# Altium integrated library Linear Technology Power Management Battery Management.IntLib: 626 symbols (part 55 of 56)
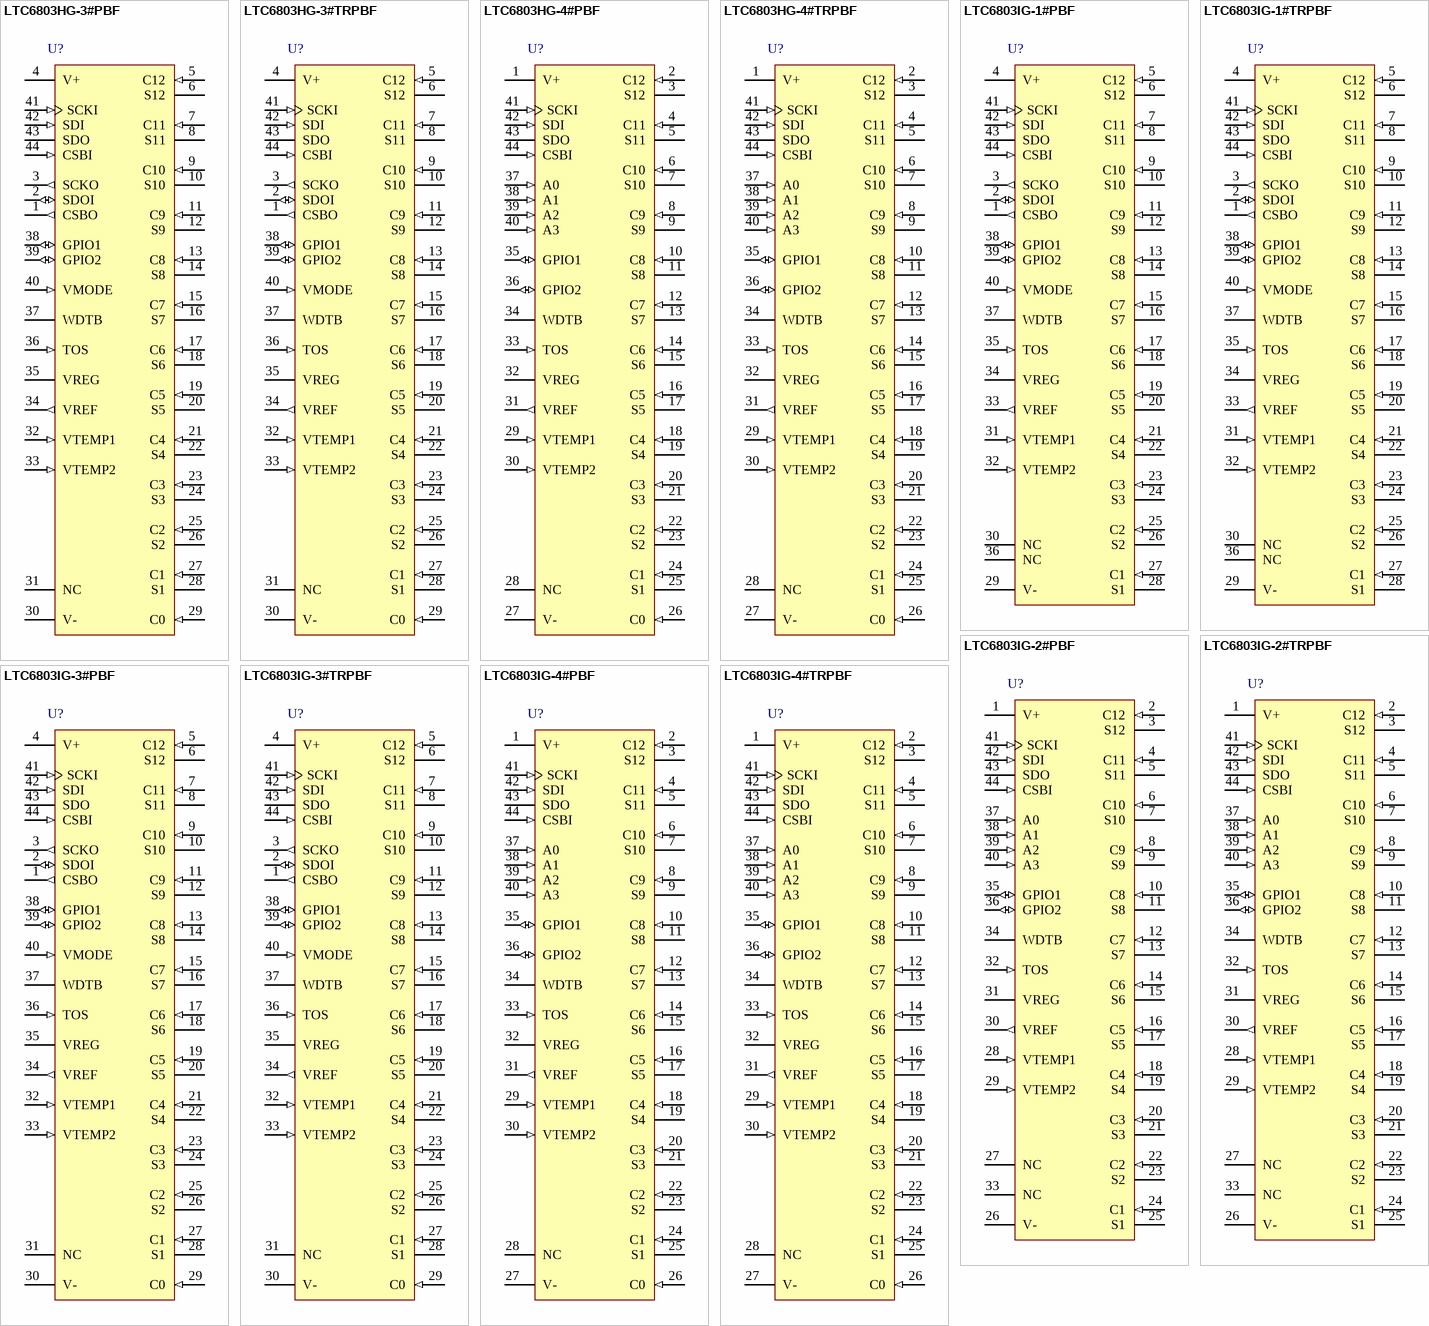
[diagram p76: symbols LTC6803HG-3#PBF to LTC6803IG-4#TRPBF]

## LTC6803IG-3#TRPBF
designator U?
Multicell Battery Stack Monitor, 60 V Vin MAX, 44-pin SOP (G-44), -40 to 85 degC, Pb-Free, Tape and Reel; Manufacturer: Linear Technology; PartNumber: LTC6803IG-3#TRPBF; Battery Chemistry: Li-Ion, Supercapacitors, Multi-Chemistry; Number of Cells: > 1000 V of stacked Li-Ion cells; Vin Max(V): 60; DatasheetVersion: Rev. A; PackageVersion: Rev. Ø, 06/2010; PackageReference: G-44; PackageDescription: 44-Pin Plastic SSOP, Body 12.8 x 5.3 mm, Pitch 0.5 mm; Supplier 1: Digi-Key; Supplier Part Number 1: LTC6803IG-3#TRPBF-ND; Supplier 2: Newark; Supplier Part Number 2: 54T8029; Packing: Tape and Reel; RoHS: TRUE; Type of Charger: Battery Stack Monitor; Mounting Technology: Surface Mount; ComponentLink1Description: Manufacturer URL; ComponentLink1URL: http://www.linear.com/; ComponentLink2Description: Datasheet; ComponentLink2URL: http://cds.linear.com/docs/en/datasheet/680313fa.pdf; ComponentLink3Description: Package Specification; ComponentLink3URL: http://cds.linear.com/docs/en/packaging/SSOP_44_05-08-1754.pdf
footprint LT-G-44_N (SOP, 44-Leads, Body 13.1x5.6mm, Pitch 0.5mm, IPC Medium Density)
footprint LT-G-44_L (SOP, 44-Leads, Body 13.1x5.6mm, Pitch 0.5mm, IPC High Density)
footprint LT-G-44_M (SOP, 44-Leads, Body 13.1x5.6mm, Pitch 0.5mm, IPC Low Density)
pins: 1 CSBO (out) "Chip Select Output (Active Low). CSBO is a buffered version of the chip select input, CSBI. CSBO drives the next IC in the daisy chain. See Serial Port in the Applications Information section.", 2 SDOI (io) "Serial Data I/O Pin. SDOI transfers data to and from the next IC in the daisy chain. See Serial Port in the Applications Information section.", 3 SCKO (out) "Serial Clock Output. SCKO is a buffered version of SCKI. SCKO drives the next IC in the daisy chain. See Serial Port in the Applications Information section.", 4 V+ (power) "Positive Power Supply. Pin 4 can be tied to the most positive potential in the battery stack or an isolated power supply. V+ must be greater than the most positive potential in the battery stack under normal operation. With (See Datasheet)", 5 C12 (in) "C1 through C12 are the inputs for monitoring battery cell voltages. The negative terminal of the bottom cell is tied to pin V- for LTC6803-1, pin C0 for LTC6803-3 . The next lowest potential is tied to C1 and so forth. See (See Datasheet)", 6 S12 (hiz) "S1 though S12 pins are used to balance battery cells. If one cell in a series becomes overcharged, an S output can be used to discharge the cell. Each S output has an internal N-channel MOSFET for discharging. See the Block (See Datasheet)", 7 C11 (in) "C1 through C12 are the inputs for monitoring battery cell voltages. The negative terminal of the bottom cell is tied to pin V- for LTC6803-1, pin C0 for LTC6803-3 . The next lowest potential is tied to C1 and so forth. See (See Datasheet)", 8 S11 (hiz) "S1 though S12 pins are used to balance battery cells. If one cell in a series becomes overcharged, an S output can be used to discharge the cell. Each S output has an internal N-channel MOSFET for discharging. See the Block (See Datasheet)", 9 C10 (in) "C1 through C12 are the inputs for monitoring battery cell voltages. The negative terminal of the bottom cell is tied to pin V- for LTC6803-1, pin C0 for LTC6803-3 . The next lowest potential is tied to C1 and so forth. See (See Datasheet)", 10 S10 (hiz) "S1 though S12 pins are used to balance battery cells. If one cell in a series becomes overcharged, an S output can be used to discharge the cell. Each S output has an internal N-channel MOSFET for discharging. See the Block (See Datasheet)", 11 C9 (in) "C1 through C12 are the inputs for monitoring battery cell voltages. The negative terminal of the bottom cell is tied to pin V- for LTC6803-1, pin C0 for LTC6803-3 . The next lowest potential is tied to C1 and so forth. See (See Datasheet)", 12 S9 (hiz) "S1 though S12 pins are used to balance battery cells. If one cell in a series becomes overcharged, an S output can be used to discharge the cell. Each S output has an internal N-channel MOSFET for discharging. See the Block (See Datasheet)", 13 C8 (in) "C1 through C12 are the inputs for monitoring battery cell voltages. The negative terminal of the bottom cell is tied to pin V- for LTC6803-1, pin C0 for LTC6803-3 . The next lowest potential is tied to C1 and so forth. See (See Datasheet)", 14 S8 (hiz) "S1 though S12 pins are used to balance battery cells. If one cell in a series becomes overcharged, an S output can be used to discharge the cell. Each S output has an internal N-channel MOSFET for discharging. See the Block (See Datasheet)", 15 C7 (in) "C1 through C12 are the inputs for monitoring battery cell voltages. The negative terminal of the bottom cell is tied to pin V- for LTC6803-1, pin C0 for LTC6803-3 . The next lowest potential is tied to C1 and so forth. See (See Datasheet)", 16 S7 (hiz) "S1 though S12 pins are used to balance battery cells. If one cell in a series becomes overcharged, an S output can be used to discharge the cell. Each S output has an internal N-channel MOSFET for discharging. See the Block (See Datasheet)", 17 C6 (in) "C1 through C12 are the inputs for monitoring battery cell voltages. The negative terminal of the bottom cell is tied to pin V- for LTC6803-1, pin C0 for LTC6803-3 . The next lowest potential is tied to C1 and so forth. See (See Datasheet)", 18 S6 (hiz) "S1 though S12 pins are used to balance battery cells. If one cell in a series becomes overcharged, an S output can be used to discharge the cell. Each S output has an internal N-channel MOSFET for discharging. See the Block (See Datasheet)", 19 C5 (in) "C1 through C12 are the inputs for monitoring battery cell voltages. The negative terminal of the bottom cell is tied to pin V- for LTC6803-1, pin C0 for LTC6803-3 . The next lowest potential is tied to C1 and so forth. See (See Datasheet)", 20 S5 (hiz) "S1 though S12 pins are used to balance battery cells. If one cell in a series becomes overcharged, an S output can be used to discharge the cell. Each S output has an internal N-channel MOSFET for discharging. See the Block (See Datasheet)", 21 C4 (in) "C1 through C12 are the inputs for monitoring battery cell voltages. The negative terminal of the bottom cell is tied to pin V- for LTC6803-1, pin C0 for LTC6803-3 . The next lowest potential is tied to C1 and so forth. See (See Datasheet)", 22 S4 (hiz) "S1 though S12 pins are used to balance battery cells. If one cell in a series becomes overcharged, an S output can be used to discharge the cell. Each S output has an internal N-channel MOSFET for discharging. See the Block (See Datasheet)", 23 C3 (in) "C1 through C12 are the inputs for monitoring battery cell voltages. The negative terminal of the bottom cell is tied to pin V- for LTC6803-1, pin C0 for LTC6803-3 . The next lowest potential is tied to C1 and so forth. See (See Datasheet)", 24 S3 (hiz) "S1 though S12 pins are used to balance battery cells. If one cell in a series becomes overcharged, an S output can be used to discharge the cell. Each S output has an internal N-channel MOSFET for discharging. See the Block (See Datasheet)", 25 C2 (in) "C1 through C12 are the inputs for monitoring battery cell voltages. The negative terminal of the bottom cell is tied to pin V- for LTC6803-1, pin C0 for LTC6803-3 . The next lowest potential is tied to C1 and so forth. See (See Datasheet)", 26 S2 (hiz) "S1 though S12 pins are used to balance battery cells. If one cell in a series becomes overcharged, an S output can be used to discharge the cell. Each S output has an internal N-channel MOSFET for discharging. See the Block (See Datasheet)", 27 C1 (in) "C1 through C12 are the inputs for monitoring battery cell voltages. The negative terminal of the bottom cell is tied to pin V- for LTC6803-1, pin C0 for LTC6803-3 . The next lowest potential is tied to C1 and so forth. See (See Datasheet)", 28 S1 (hiz) "S1 though S12 pins are used to balance battery cells. If one cell in a series becomes overcharged, an S output can be used to discharge the cell. Each S output has an internal N-channel MOSFET for discharging. See the Block (See Datasheet)", 29 C0 (in) "Negative Terminal of the Bottom Battery Cell. C0 and V- form Kelvin connections to eliminate effect of voltage drop at the V- trace.", 30 V- (power) "Connect V- to the most negative potential in the series of cells.", 31 NC "This pin is not used and is internally connected to V- through 10ohm. It can be left unconnected or connected to V- on the PCB.", 32 VTEMP1 (in) "Temperature Sensor Inputs. The ADC measures the voltage on VTEMPn with respect to V- and stores the result in the TMP registers. The ADC measurements are relative to the VREF pin voltage. Therefore a simple thermistor and (See Datasheet)", 33 VTEMP2 (in) "Temperature Sensor Inputs. The ADC measures the voltage on VTEMPn with respect to V- and stores the result in the TMP registers. The ADC measurements are relative to the VREF pin voltage. Therefore a simple thermistor and (See Datasheet)", 34 VREF (out) "3.065V Voltage Reference Output. This pin should be bypassed with a 1uF capacitor. The VREF pin can drive a 100k resistive load connected to V-. Larger loads should be buffered with an LT6003 op amp, or similar device.", 35 VREG (power) "Linear Voltage Regulator Output. This pin should be bypassed with a 1uF capacitor. The VREG pin is capable of supplying up to 4mA to an external load. The VREG pin does not sink current.", 36 TOS (in) "Top of Stack Input. Tie TOS to VREG when the LTC6803-1 or LTC6803-3 is the top device in a daisy chain. Tie TOS to V- otherwise. When TOS is tied to VREG, the LTC6803-1 or LTC6803-3 ignores the SDOI input and SCKO, CSBO are (See Datasheet)", 37 WDTB (oc) "Watchdog Timer Output (Active Low). If there is no valid command received for 1 to 2.5 seconds, the WDTB output is asserted. The WDTB pin is an open-drain NMOS output. When asserted it pulls the output down to V- and resets (See Datasheet)", 38 GPIO1 (io) "General Purpose Input/Output. By writing a “0” to a GPIO configuration register bit, the open-drain output is activated and the pin is pulled to V-. By writing logic “1” to the configuration register b(See Datasheet)", 39 GPIO2 (io) "General Purpose Input/Output. By writing a “0” to a GPIO configuration register bit, the open-drain output is activated and the pin is pulled to V-. By writing logic “1” to the configuration register b(See Datasheet)", 40 VMODE (in) "Voltage Mode Input. When VMODE is tied to VREG, the SCKI, SDI, SDO and CSBI pins are configured as voltage inputs and outputs. This means these pins accept standard TTL logic levels. Connect VMODE to VREG when the LTC6803-1 (See Datasheet)", 41 SCKI (in) "Serial Clock Input. The SCKI pin interfaces to any logic gate (TTL levels) if VMODE is tied to VREG. SCKI must be driven by the SCKO pin of another LTC6803-1 or LTC6803-3 if VMODE is tied to V-. See Serial Port in the (See Datasheet)", 42 SDI (in) "Serial Data Input. The SDI pin interfaces to any logic gate (TTL levels) if VMODE is tied to VREG. SDI must be driven by the SDOI pin of another LTC6803-1 or LTC6803-3 if VMODE is tied to V-. See Serial Port in the (See Datasheet)", 43 SDO (oc) "Serial Data Output. The SDO pin is an NMOS open-drain output if VMODE is tied to VREG. A pull-up resistor is needed on SDO. SDO is not used if VMODE is tied to V-. See Serial Port in the Applications Information section.", 44 CSBI (in) "Chip Select (Active Low) Input. The CSBI pin interfaces to any logic gate (TTL levels) if VMODE is tied to VREG. CSBI must be driven by the CSBO pin of another LTC6803-1 or LTC6803-3 if VMODE is tied to V-. See Serial Port (See Datasheet)"

## LTC6803IG-4#PBF
designator U?
Multicell Battery Stack Monitor, 60 V Vin MAX, 44-pin SOP (G-44), -40 to 85 degC, Pb-Free; Manufacturer: Linear Technology; PartNumber: LTC6803IG-4#PBF; Battery Chemistry: Li-Ion, Supercapacitors, Multi-Chemistry; Number of Cells: > 1000 V of stacked Li-Ion cells; Vin Max(V): 60; DatasheetVersion: Rev. A; PackageVersion: Rev. Ø, 06/2010; PackageReference: G-44; PackageDescription: 44-Pin Plastic SSOP, Body 12.8 x 5.3 mm, Pitch 0.5 mm; Supplier 1: Digi-Key; Supplier Part Number 1: LTC6803IG-4#PBF-ND; Supplier 2: Newark; Supplier Part Number 2: 59T9375; RoHS: TRUE; Type of Charger: Battery Stack Monitor; Mounting Technology: Surface Mount; ComponentLink1Description: Manufacturer URL; ComponentLink1URL: http://www.linear.com/; ComponentLink2Description: Datasheet; ComponentLink2URL: http://cds.linear.com/docs/en/datasheet/680324fa.pdf; ComponentLink3Description: Package Specification; ComponentLink3URL: http://cds.linear.com/docs/en/packaging/SSOP_44_05-08-1754.pdf
footprint LT-G-44_N (SOP, 44-Leads, Body 13.1x5.6mm, Pitch 0.5mm, IPC Medium Density)
footprint LT-G-44_L (SOP, 44-Leads, Body 13.1x5.6mm, Pitch 0.5mm, IPC High Density)
footprint LT-G-44_M (SOP, 44-Leads, Body 13.1x5.6mm, Pitch 0.5mm, IPC Low Density)
pins: 1 V+ (power) "Positive Power Supply. Pin 1 can be tied to the most positive potential in the battery stack or an isolated power supply. V+ must be greater than the most positive potential in the battery stack under normal operation. With (See Datasheet)", 2 C12 (in) "C1 through C12 are the inputs for monitoring battery cell voltages. The negative terminal of the bottom cell should be tied to the V- pin for the LTC6803-2, and the C0 pin for the LTC6803-4. The next lowest potential is tied (See Datasheet)", 3 S12 (hiz) "S1 though S12 pins are used to balance battery cells. If one cell in a series becomes overcharged, an S output can be used to discharge the cell. Each S output has an internal N-channel MOSFET for discharging. See the Block (See Datasheet)", 4 C11 (in) "C1 through C12 are the inputs for monitoring battery cell voltages. The negative terminal of the bottom cell should be tied to the V- pin for the LTC6803-2, and the C0 pin for the LTC6803-4. The next lowest potential is tied (See Datasheet)", 5 S11 (hiz) "S1 though S12 pins are used to balance battery cells. If one cell in a series becomes overcharged, an S output can be used to discharge the cell. Each S output has an internal N-channel MOSFET for discharging. See the Block (See Datasheet)", 6 C10 (in) "C1 through C12 are the inputs for monitoring battery cell voltages. The negative terminal of the bottom cell should be tied to the V- pin for the LTC6803-2, and the C0 pin for the LTC6803-4. The next lowest potential is tied (See Datasheet)", 7 S10 (hiz) "S1 though S12 pins are used to balance battery cells. If one cell in a series becomes overcharged, an S output can be used to discharge the cell. Each S output has an internal N-channel MOSFET for discharging. See the Block (See Datasheet)", 8 C9 (in) "C1 through C12 are the inputs for monitoring battery cell voltages. The negative terminal of the bottom cell should be tied to the V- pin for the LTC6803-2, and the C0 pin for the LTC6803-4. The next lowest potential is tied (See Datasheet)", 9 S9 (hiz) "S1 though S12 pins are used to balance battery cells. If one cell in a series becomes overcharged, an S output can be used to discharge the cell. Each S output has an internal N-channel MOSFET for discharging. See the Block (See Datasheet)", 10 C8 (in) "C1 through C12 are the inputs for monitoring battery cell voltages. The negative terminal of the bottom cell should be tied to the V- pin for the LTC6803-2, and the C0 pin for the LTC6803-4. The next lowest potential is tied (See Datasheet)", 11 S8 (hiz) "S1 though S12 pins are used to balance battery cells. If one cell in a series becomes overcharged, an S output can be used to discharge the cell. Each S output has an internal N-channel MOSFET for discharging. See the Block (See Datasheet)", 12 C7 (in) "C1 through C12 are the inputs for monitoring battery cell voltages. The negative terminal of the bottom cell should be tied to the V- pin for the LTC6803-2, and the C0 pin for the LTC6803-4. The next lowest potential is tied (See Datasheet)", 13 S7 (hiz) "S1 though S12 pins are used to balance battery cells. If one cell in a series becomes overcharged, an S output can be used to discharge the cell. Each S output has an internal N-channel MOSFET for discharging. See the Block (See Datasheet)", 14 C6 (in) "C1 through C12 are the inputs for monitoring battery cell voltages. The negative terminal of the bottom cell should be tied to the V- pin for the LTC6803-2, and the C0 pin for the LTC6803-4. The next lowest potential is tied (See Datasheet)", 15 S6 (hiz) "S1 though S12 pins are used to balance battery cells. If one cell in a series becomes overcharged, an S output can be used to discharge the cell. Each S output has an internal N-channel MOSFET for discharging. See the Block (See Datasheet)", 16 C5 (in) "C1 through C12 are the inputs for monitoring battery cell voltages. The negative terminal of the bottom cell should be tied to the V- pin for the LTC6803-2, and the C0 pin for the LTC6803-4. The next lowest potential is tied (See Datasheet)", 17 S5 (hiz) "S1 though S12 pins are used to balance battery cells. If one cell in a series becomes overcharged, an S output can be used to discharge the cell. Each S output has an internal N-channel MOSFET for discharging. See the Block (See Datasheet)", 18 C4 (in) "C1 through C12 are the inputs for monitoring battery cell voltages. The negative terminal of the bottom cell should be tied to the V- pin for the LTC6803-2, and the C0 pin for the LTC6803-4. The next lowest potential is tied (See Datasheet)", 19 S4 (hiz) "S1 though S12 pins are used to balance battery cells. If one cell in a series becomes overcharged, an S output can be used to discharge the cell. Each S output has an internal N-channel MOSFET for discharging. See the Block (See Datasheet)", 20 C3 (in) "C1 through C12 are the inputs for monitoring battery cell voltages. The negative terminal of the bottom cell should be tied to the V- pin for the LTC6803-2, and the C0 pin for the LTC6803-4. The next lowest potential is tied (See Datasheet)", 21 S3 (hiz) "S1 though S12 pins are used to balance battery cells. If one cell in a series becomes overcharged, an S output can be used to discharge the cell. Each S output has an internal N-channel MOSFET for discharging. See the Block (See Datasheet)", 22 C2 (in) "C1 through C12 are the inputs for monitoring battery cell voltages. The negative terminal of the bottom cell should be tied to the V- pin for the LTC6803-2, and the C0 pin for the LTC6803-4. The next lowest potential is tied (See Datasheet)", 23 S2 (hiz) "S1 though S12 pins are used to balance battery cells. If one cell in a series becomes overcharged, an S output can be used to discharge the cell. Each S output has an internal N-channel MOSFET for discharging. See the Block (See Datasheet)", 24 C1 (in) "C1 through C12 are the inputs for monitoring battery cell voltages. The negative terminal of the bottom cell should be tied to the V- pin for the LTC6803-2, and the C0 pin for the LTC6803-4. The next lowest potential is tied (See Datasheet)", 25 S1 (hiz) "S1 though S12 pins are used to balance battery cells. If one cell in a series becomes overcharged, an S output can be used to discharge the cell. Each S output has an internal N-channel MOSFET for discharging. See the Block (See Datasheet)", 26 C0 (in) "Negative Terminal of the Bottom Battery Cell. C0 and V- form Kelvin connections to eliminate effect of voltage drop at the V- trace.", 27 V- (power) "Connect V- to the most negative potential in the series of cells.", 28 NC "No Connection.", 29 VTEMP1 (in) "Temperature Sensor Inputs. The ADC will measure the voltage on VTEMPn with respect to V- and store the result in the TMP register. The ADC measurements are relative to the VREF pin voltage. Therefore a simple thermistor and (See Datasheet)", 30 VTEMP2 (in) "Temperature Sensor Inputs. The ADC will measure the voltage on VTEMPn with respect to V- and store the result in the TMP register. The ADC measurements are relative to the VREF pin voltage. Therefore a simple thermistor and (See Datasheet)", 31 VREF (out) "3.065V Voltage Reference Output. This pin should be bypassed with a 1uF capacitor. The VREF pin can drive a 100k resistive load connected to V-. Larger loads should be buffered with an LT6003 op amp, or similar device.", 32 VREG (power) "Linear Voltage Regulator Output. This pin should be bypassed with a 1uF capacitor. The VREG pin is capable of supplying up to 4mA to an external load. The VREG pin does not sink current.", 33 TOS (in) "Top of Stack Input. The TOS pin can be tied to VREG or V- for the LTC6803. The state of the TOS pin alters the operation of the SDO pin in the toggle polling mode. See the Serial Port description.", 34 WDTB (oc) "Watchdog Timer Output (Active Low). If there is no valid command received in 1 to 2.5 seconds, the WDTB output is asserted. The WDTB pin is an open-drain NMOS output. When asserted it pulls the output down to V- and resets (See Datasheet)", 35 GPIO1 (io) "General Purpose Input/ Output. By writing a “0” to a GPIO configuration register bit, the open-drain output is activated and the pin is pulled to V-. By writing a logic “1” to the configuration register b(See Datasheet)", 36 GPIO2 (io) "General Purpose Input/ Output. By writing a “0” to a GPIO configuration register bit, the open-drain output is activated and the pin is pulled to V-. By writing a logic “1” to the configuration register b(See Datasheet)", 37 A0 (in) "Address Inputs. These pins are tied to VREG or V-. The state of the address pins (VREG = 1, V- = 0) determines the LTC6803 address. See Address Commands in the Serial Port subsection of the Applications Information section.", 38 A1 (in) "Address Inputs. These pins are tied to VREG or V-. The state of the address pins (VREG = 1, V- = 0) determines the LTC6803 address. See Address Commands in the Serial Port subsection of the Applications Information section.", 39 A2 (in) "Address Inputs. These pins are tied to VREG or V-. The state of the address pins (VREG = 1, V- = 0) determines the LTC6803 address. See Address Commands in the Serial Port subsection of the Applications Information section.", 40 A3 (in) "Address Inputs. These pins are tied to VREG or V-. The state of the address pins (VREG = 1, V- = 0) determines the LTC6803 address. See Address Commands in the Serial Port subsection of the Applications Information section.", 41 SCKI (in) "Serial Clock Input. The SCKI pin interfaces to any logic gate (TTL levels). See Serial Port in the Applications Information section.", 42 SDI (in) "Serial Data Input. The SDI pin interfaces to any logic gate (TTL levels). See Serial Port in the Applications Information section.", 43 SDO (oc) "Serial Data Output. The SDO pin is an NMOS open-drain output. A pull-up resistor is needed on SDO. See Serial Port in the Applications Information section.", 44 CSBI (in) "Chip Select (Active Low) Input. The CSBI pin interfaces to any logic gate (TTL levels). See Serial Port in the Applications Information section."

## LTC6803IG-4#TRPBF
designator U?
Multicell Battery Stack Monitor, 60 V Vin MAX, 44-pin SOP (G-44), -40 to 85 degC, Pb-Free, Tape and Reel; Manufacturer: Linear Technology; PartNumber: LTC6803IG-4#TRPBF; Battery Chemistry: Li-Ion, Supercapacitors, Multi-Chemistry; Number of Cells: > 1000 V of stacked Li-Ion cells; Vin Max(V): 60; DatasheetVersion: Rev. A; PackageVersion: Rev. Ø, 06/2010; PackageReference: G-44; PackageDescription: 44-Pin Plastic SSOP, Body 12.8 x 5.3 mm, Pitch 0.5 mm; Supplier 1: Digi-Key; Supplier Part Number 1: LTC6803IG-4#TRPBF-ND; Packing: Tape and Reel; RoHS: TRUE; Type of Charger: Battery Stack Monitor; Mounting Technology: Surface Mount; ComponentLink1Description: Manufacturer URL; ComponentLink1URL: http://www.linear.com/; ComponentLink2Description: Datasheet; ComponentLink2URL: http://cds.linear.com/docs/en/datasheet/680324fa.pdf; ComponentLink3Description: Package Specification; ComponentLink3URL: http://cds.linear.com/docs/en/packaging/SSOP_44_05-08-1754.pdf
footprint LT-G-44_N (SOP, 44-Leads, Body 13.1x5.6mm, Pitch 0.5mm, IPC Medium Density)
footprint LT-G-44_L (SOP, 44-Leads, Body 13.1x5.6mm, Pitch 0.5mm, IPC High Density)
footprint LT-G-44_M (SOP, 44-Leads, Body 13.1x5.6mm, Pitch 0.5mm, IPC Low Density)
pins: 1 V+ (power) "Positive Power Supply. Pin 1 can be tied to the most positive potential in the battery stack or an isolated power supply. V+ must be greater than the most positive potential in the battery stack under normal operation. With (See Datasheet)", 2 C12 (in) "C1 through C12 are the inputs for monitoring battery cell voltages. The negative terminal of the bottom cell should be tied to the V- pin for the LTC6803-2, and the C0 pin for the LTC6803-4. The next lowest potential is tied (See Datasheet)", 3 S12 (hiz) "S1 though S12 pins are used to balance battery cells. If one cell in a series becomes overcharged, an S output can be used to discharge the cell. Each S output has an internal N-channel MOSFET for discharging. See the Block (See Datasheet)", 4 C11 (in) "C1 through C12 are the inputs for monitoring battery cell voltages. The negative terminal of the bottom cell should be tied to the V- pin for the LTC6803-2, and the C0 pin for the LTC6803-4. The next lowest potential is tied (See Datasheet)", 5 S11 (hiz) "S1 though S12 pins are used to balance battery cells. If one cell in a series becomes overcharged, an S output can be used to discharge the cell. Each S output has an internal N-channel MOSFET for discharging. See the Block (See Datasheet)", 6 C10 (in) "C1 through C12 are the inputs for monitoring battery cell voltages. The negative terminal of the bottom cell should be tied to the V- pin for the LTC6803-2, and the C0 pin for the LTC6803-4. The next lowest potential is tied (See Datasheet)", 7 S10 (hiz) "S1 though S12 pins are used to balance battery cells. If one cell in a series becomes overcharged, an S output can be used to discharge the cell. Each S output has an internal N-channel MOSFET for discharging. See the Block (See Datasheet)", 8 C9 (in) "C1 through C12 are the inputs for monitoring battery cell voltages. The negative terminal of the bottom cell should be tied to the V- pin for the LTC6803-2, and the C0 pin for the LTC6803-4. The next lowest potential is tied (See Datasheet)", 9 S9 (hiz) "S1 though S12 pins are used to balance battery cells. If one cell in a series becomes overcharged, an S output can be used to discharge the cell. Each S output has an internal N-channel MOSFET for discharging. See the Block (See Datasheet)", 10 C8 (in) "C1 through C12 are the inputs for monitoring battery cell voltages. The negative terminal of the bottom cell should be tied to the V- pin for the LTC6803-2, and the C0 pin for the LTC6803-4. The next lowest potential is tied (See Datasheet)", 11 S8 (hiz) "S1 though S12 pins are used to balance battery cells. If one cell in a series becomes overcharged, an S output can be used to discharge the cell. Each S output has an internal N-channel MOSFET for discharging. See the Block (See Datasheet)", 12 C7 (in) "C1 through C12 are the inputs for monitoring battery cell voltages. The negative terminal of the bottom cell should be tied to the V- pin for the LTC6803-2, and the C0 pin for the LTC6803-4. The next lowest potential is tied (See Datasheet)", 13 S7 (hiz) "S1 though S12 pins are used to balance battery cells. If one cell in a series becomes overcharged, an S output can be used to discharge the cell. Each S output has an internal N-channel MOSFET for discharging. See the Block (See Datasheet)", 14 C6 (in) "C1 through C12 are the inputs for monitoring battery cell voltages. The negative terminal of the bottom cell should be tied to the V- pin for the LTC6803-2, and the C0 pin for the LTC6803-4. The next lowest potential is tied (See Datasheet)", 15 S6 (hiz) "S1 though S12 pins are used to balance battery cells. If one cell in a series becomes overcharged, an S output can be used to discharge the cell. Each S output has an internal N-channel MOSFET for discharging. See the Block (See Datasheet)", 16 C5 (in) "C1 through C12 are the inputs for monitoring battery cell voltages. The negative terminal of the bottom cell should be tied to the V- pin for the LTC6803-2, and the C0 pin for the LTC6803-4. The next lowest potential is tied (See Datasheet)", 17 S5 (hiz) "S1 though S12 pins are used to balance battery cells. If one cell in a series becomes overcharged, an S output can be used to discharge the cell. Each S output has an internal N-channel MOSFET for discharging. See the Block (See Datasheet)", 18 C4 (in) "C1 through C12 are the inputs for monitoring battery cell voltages. The negative terminal of the bottom cell should be tied to the V- pin for the LTC6803-2, and the C0 pin for the LTC6803-4. The next lowest potential is tied (See Datasheet)", 19 S4 (hiz) "S1 though S12 pins are used to balance battery cells. If one cell in a series becomes overcharged, an S output can be used to discharge the cell. Each S output has an internal N-channel MOSFET for discharging. See the Block (See Datasheet)", 20 C3 (in) "C1 through C12 are the inputs for monitoring battery cell voltages. The negative terminal of the bottom cell should be tied to the V- pin for the LTC6803-2, and the C0 pin for the LTC6803-4. The next lowest potential is tied (See Datasheet)", 21 S3 (hiz) "S1 though S12 pins are used to balance battery cells. If one cell in a series becomes overcharged, an S output can be used to discharge the cell. Each S output has an internal N-channel MOSFET for discharging. See the Block (See Datasheet)", 22 C2 (in) "C1 through C12 are the inputs for monitoring battery cell voltages. The negative terminal of the bottom cell should be tied to the V- pin for the LTC6803-2, and the C0 pin for the LTC6803-4. The next lowest potential is tied (See Datasheet)", 23 S2 (hiz) "S1 though S12 pins are used to balance battery cells. If one cell in a series becomes overcharged, an S output can be used to discharge the cell. Each S output has an internal N-channel MOSFET for discharging. See the Block (See Datasheet)", 24 C1 (in) "C1 through C12 are the inputs for monitoring battery cell voltages. The negative terminal of the bottom cell should be tied to the V- pin for the LTC6803-2, and the C0 pin for the LTC6803-4. The next lowest potential is tied (See Datasheet)", 25 S1 (hiz) "S1 though S12 pins are used to balance battery cells. If one cell in a series becomes overcharged, an S output can be used to discharge the cell. Each S output has an internal N-channel MOSFET for discharging. See the Block (See Datasheet)", 26 C0 (in) "Negative Terminal of the Bottom Battery Cell. C0 and V- form Kelvin connections to eliminate effect of voltage drop at the V- trace.", 27 V- (power) "Connect V- to the most negative potential in the series of cells.", 28 NC "No Connection.", 29 VTEMP1 (in) "Temperature Sensor Inputs. The ADC will measure the voltage on VTEMPn with respect to V- and store the result in the TMP register. The ADC measurements are relative to the VREF pin voltage. Therefore a simple thermistor and (See Datasheet)", 30 VTEMP2 (in) "Temperature Sensor Inputs. The ADC will measure the voltage on VTEMPn with respect to V- and store the result in the TMP register. The ADC measurements are relative to the VREF pin voltage. Therefore a simple thermistor and (See Datasheet)", 31 VREF (out) "3.065V Voltage Reference Output. This pin should be bypassed with a 1uF capacitor. The VREF pin can drive a 100k resistive load connected to V-. Larger loads should be buffered with an LT6003 op amp, or similar device.", 32 VREG (power) "Linear Voltage Regulator Output. This pin should be bypassed with a 1uF capacitor. The VREG pin is capable of supplying up to 4mA to an external load. The VREG pin does not sink current.", 33 TOS (in) "Top of Stack Input. The TOS pin can be tied to VREG or V- for the LTC6803. The state of the TOS pin alters the operation of the SDO pin in the toggle polling mode. See the Serial Port description.", 34 WDTB (oc) "Watchdog Timer Output (Active Low). If there is no valid command received in 1 to 2.5 seconds, the WDTB output is asserted. The WDTB pin is an open-drain NMOS output. When asserted it pulls the output down to V- and resets (See Datasheet)", 35 GPIO1 (io) "General Purpose Input/ Output. By writing a “0” to a GPIO configuration register bit, the open-drain output is activated and the pin is pulled to V-. By writing a logic “1” to the configuration register b(See Datasheet)", 36 GPIO2 (io) "General Purpose Input/ Output. By writing a “0” to a GPIO configuration register bit, the open-drain output is activated and the pin is pulled to V-. By writing a logic “1” to the configuration register b(See Datasheet)", 37 A0 (in) "Address Inputs. These pins are tied to VREG or V-. The state of the address pins (VREG = 1, V- = 0) determines the LTC6803 address. See Address Commands in the Serial Port subsection of the Applications Information section.", 38 A1 (in) "Address Inputs. These pins are tied to VREG or V-. The state of the address pins (VREG = 1, V- = 0) determines the LTC6803 address. See Address Commands in the Serial Port subsection of the Applications Information section.", 39 A2 (in) "Address Inputs. These pins are tied to VREG or V-. The state of the address pins (VREG = 1, V- = 0) determines the LTC6803 address. See Address Commands in the Serial Port subsection of the Applications Information section.", 40 A3 (in) "Address Inputs. These pins are tied to VREG or V-. The state of the address pins (VREG = 1, V- = 0) determines the LTC6803 address. See Address Commands in the Serial Port subsection of the Applications Information section.", 41 SCKI (in) "Serial Clock Input. The SCKI pin interfaces to any logic gate (TTL levels). See Serial Port in the Applications Information section.", 42 SDI (in) "Serial Data Input. The SDI pin interfaces to any logic gate (TTL levels). See Serial Port in the Applications Information section.", 43 SDO (oc) "Serial Data Output. The SDO pin is an NMOS open-drain output. A pull-up resistor is needed on SDO. See Serial Port in the Applications Information section.", 44 CSBI (in) "Chip Select (Active Low) Input. The CSBI pin interfaces to any logic gate (TTL levels). See Serial Port in the Applications Information section."

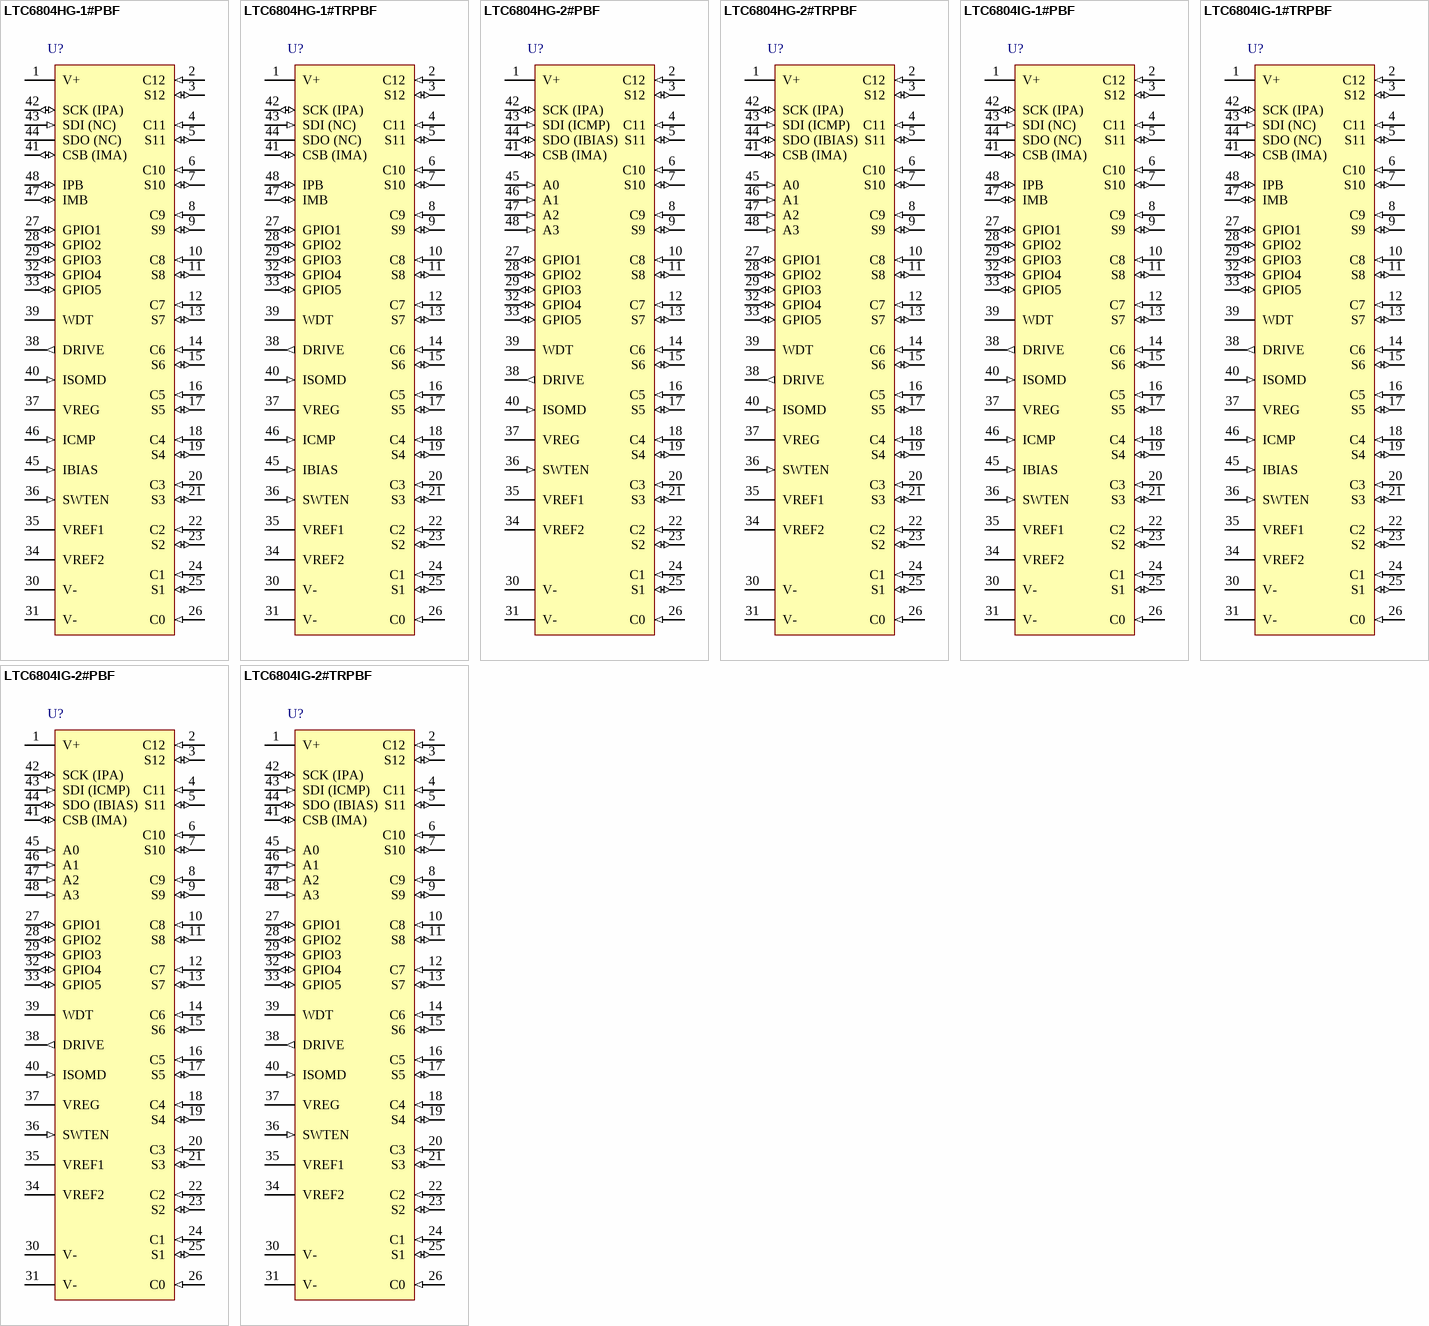
[diagram p22: symbols LTC6804HG-1#PBF to LTC6804IG-2#TRPBF]

## LTC6804HG-1#PBF
designator U?
Multicell Battery Monitor, 60 V Vin MAX, 48-pin SOP (G-48), -40 to 125 degC, Pb-Free; Manufacturer: Linear Technology; PartNumber: LTC6804HG-1#PBF; Battery Chemistry: Li-Ion, Li-Polymer, NiMH; Number of Cells: > 1000 V of stacked Li-Ion cells; Type of Charger: Battery Stack Monitor; Vin Max(V): 60; PackageVersion: Rev. Ø, 01/2011; PackageReference: G-48; PackageDescription: 48-Pin Plastic SSOP, Body 12.8 x 5.3 mm, Pitch 0.5 mm; Supplier 1: Digi-Key; Supplier Part Number 1: LTC6804HG-1#PBF-ND; Supplier 2: Newark; Supplier Part Number 2: 95W3382; RoHS: TRUE; Mounting Technology: Surface Mount; ComponentLink1Description: Manufacturer URL; ComponentLink1URL: http://www.linear.com/; ComponentLink2Description: Datasheet; ComponentLink2URL: http://cds.linear.com/docs/en/datasheet/680412f.pdf; ComponentLink3Description: Package Specification; ComponentLink3URL: http://cds.linear.com/docs/en/packaging/05081887_0_G48.pdf
footprint LT-G-48_N (SOP, 48-Leads, Body 13.1x5.6mm, Pitch 0.5mm, IPC Medium Density)
footprint LT-G-48_L (SOP, 48-Leads, Body 13.1x5.6mm, Pitch 0.5mm, IPC High Density)
footprint LT-G-48_M (SOP, 48-Leads, Body 13.1x5.6mm, Pitch 0.5mm, IPC Low Density)
pins: 1 V+ (power) "Positive Supply Pin.", 2 C12 (in) "Cell Inputs.", 3 S12 (io) "Balance Inputs/Outputs. 12 N-MOSFETs are connected between S(n) and C(n - 1) for discharging cells.", 4 C11 (in) "Cell Inputs.", 5 S11 (io) "Balance Inputs/Outputs. 12 N-MOSFETs are connected between S(n) and C(n - 1) for discharging cells.", 6 C10 (in) "Cell Inputs.", 7 S10 (io) "Balance Inputs/Outputs. 12 N-MOSFETs are connected between S(n) and C(n - 1) for discharging cells.", 8 C9 (in) "Cell Inputs.", 9 S9 (io) "Balance Inputs/Outputs. 12 N-MOSFETs are connected between S(n) and C(n - 1) for discharging cells.", 10 C8 (in) "Cell Inputs.", 11 S8 (io) "Balance Inputs/Outputs. 12 N-MOSFETs are connected between S(n) and C(n - 1) for discharging cells.", 12 C7 (in) "Cell Inputs.", 13 S7 (io) "Balance Inputs/Outputs. 12 N-MOSFETs are connected between S(n) and C(n - 1) for discharging cells.", 14 C6 (in) "Cell Inputs.", 15 S6 (io) "Balance Inputs/Outputs. 12 N-MOSFETs are connected between S(n) and C(n - 1) for discharging cells.", 16 C5 (in) "Cell Inputs.", 17 S5 (io) "Balance Inputs/Outputs. 12 N-MOSFETs are connected between S(n) and C(n - 1) for discharging cells.", 18 C4 (in) "Cell Inputs.", 19 S4 (io) "Balance Inputs/Outputs. 12 N-MOSFETs are connected between S(n) and C(n - 1) for discharging cells.", 20 C3 (in) "Cell Inputs.", 21 S3 (io) "Balance Inputs/Outputs. 12 N-MOSFETs are connected between S(n) and C(n - 1) for discharging cells.", 22 C2 (in) "Cell Inputs.", 23 S2 (io) "Balance Inputs/Outputs. 12 N-MOSFETs are connected between S(n) and C(n - 1) for discharging cells.", 24 C1 (in) "Cell Inputs.", 25 S1 (io) "Balance Inputs/Outputs. 12 N-MOSFETs are connected between S(n) and C(n - 1) for discharging cells.", 26 C0 (in) "Cell Inputs.", 27 GPIO1 (io) "General Purpose I/O. Can be used as digital inputs or digital outputs, or as analog inputs with a measurement range from V- to 5V.", 28 GPIO2 (io) "General Purpose I/O. Can be used as digital inputs or digital outputs, or as analog inputs with a measurement range from V- to 5V.", 29 GPIO3 (io) "General Purpose I/O. Can be used as digital inputs or digital outputs, or as analog inputs with a measurement range from V- to 5V. GPIO [3:5] can be used as an I2C or SPI port.", 30 V- (power) "Negative Supply Pins. The V- pins must be shorted together, external to the IC.", 31 V- (power) "Negative Supply Pins. The V- pins must be shorted together, external to the IC.", 32 GPIO4 (io) "General Purpose I/O. Can be used as digital inputs or digital outputs, or as analog inputs with a measurement range from V- to 5V. GPIO [3:5] can be used as an I2C or SPI port.", 33 GPIO5 (io) "General Purpose I/O. Can be used as digital inputs or digital outputs, or as analog inputs with a measurement range from V- to 5V. GPIO [3:5] can be used as an I2C or SPI port.", 34 VREF2 "Buffered 2nd reference voltage for driving multiple 10k thermistors. Bypass with an external 1uF capacitor.", 35 VREF1 "ADC Reference Voltage. Bypass with an external 1uF capacitor. No DC loads allowed.", 36 SWTEN (in) "Software Timer Enable. Connect this pin to VREG to enable the software timer.", 37 VREG (power) "5V Regulator Input. Bypass with an external 1uF capacitor.", 38 DRIVE (out) "Connect the base of an NPN to this pin. Connect the collector to V+ and the emitter to VREG.", 39 WDT (hiz) "Watchdog Timer Output Pin. This is an open drain NMOS digital output. It can be left unconnected or connected with a 1M resistor to VREG. If the LTC6804 does not receive a valid command within 2 seconds, the watchdog timer (See Datasheet)", 40 ISOMD (in) "Serial Interface Mode. Connecting ISOMD to VREG configures Pins 41 to 44 of the LTC6804 for 2-wire isolated interface (isoSPI) mode. Connecting ISOMD to V- configures the LTC6804 for 4-wire SPI mode.", 41 CSB (IMA) (io), 42 SCK (IPA) (io), 43 SDI (NC) (in), 44 SDO (NC) (oc), 45 IBIAS (in) "Isolated Interface Current Bias. Tie IBIAS to V- through a resistor divider to set the interface output current level. When the isoSPI interface is enabled, the IBIAS pin voltage is 2V. The IPA/IMA or IPB/IMB output current (See Datasheet)", 46 ICMP (in) "Isolated Interface Comparator Voltage Threshold Set. Tie this pin to the resistor divider between IBIAS and V- to set the voltage threshold of the isoSPI receiver comparators. The comparator thresholds are set to 1/2 the (See Datasheet)", 47 IMB (io) "Isolated 2-Wire Serial Interface Port B. IMB (minus) are a differential input/output pair.", 48 IPB (io) "Isolated 2-Wire Serial Interface Port B. IPB (plus) are a differential input/output pair."

## LTC6804HG-1#TRPBF
designator U?
Multicell Battery Monitor, 60 V Vin MAX, 48-pin SOP (G-48), -40 to 125 degC, Pb-Free, Tape and Reel; Manufacturer: Linear Technology; PartNumber: LTC6804HG-1#TRPBF; Battery Chemistry: Li-Ion, Li-Polymer, NiMH; Number of Cells: > 1000 V of stacked Li-Ion cells; Type of Charger: Battery Stack Monitor; Vin Max(V): 60; PackageVersion: Rev. Ø, 01/2011; PackageReference: G-48; PackageDescription: 48-Pin Plastic SSOP, Body 12.8 x 5.3 mm, Pitch 0.5 mm; Supplier 1: Digi-Key; Supplier Part Number 1: LTC6804HG-1#TRPBF-ND; Supplier 2: Newark; Supplier Part Number 2: 95W3383; Packing: Tape and Reel; RoHS: TRUE; Mounting Technology: Surface Mount; ComponentLink1Description: Manufacturer URL; ComponentLink1URL: http://www.linear.com/; ComponentLink2Description: Datasheet; ComponentLink2URL: http://cds.linear.com/docs/en/datasheet/680412f.pdf; ComponentLink3Description: Package Specification; ComponentLink3URL: http://cds.linear.com/docs/en/packaging/05081887_0_G48.pdf
footprint LT-G-48_N (SOP, 48-Leads, Body 13.1x5.6mm, Pitch 0.5mm, IPC Medium Density)
footprint LT-G-48_L (SOP, 48-Leads, Body 13.1x5.6mm, Pitch 0.5mm, IPC High Density)
footprint LT-G-48_M (SOP, 48-Leads, Body 13.1x5.6mm, Pitch 0.5mm, IPC Low Density)
pins: 1 V+ (power) "Positive Supply Pin.", 2 C12 (in) "Cell Inputs.", 3 S12 (io) "Balance Inputs/Outputs. 12 N-MOSFETs are connected between S(n) and C(n - 1) for discharging cells.", 4 C11 (in) "Cell Inputs.", 5 S11 (io) "Balance Inputs/Outputs. 12 N-MOSFETs are connected between S(n) and C(n - 1) for discharging cells.", 6 C10 (in) "Cell Inputs.", 7 S10 (io) "Balance Inputs/Outputs. 12 N-MOSFETs are connected between S(n) and C(n - 1) for discharging cells.", 8 C9 (in) "Cell Inputs.", 9 S9 (io) "Balance Inputs/Outputs. 12 N-MOSFETs are connected between S(n) and C(n - 1) for discharging cells.", 10 C8 (in) "Cell Inputs.", 11 S8 (io) "Balance Inputs/Outputs. 12 N-MOSFETs are connected between S(n) and C(n - 1) for discharging cells.", 12 C7 (in) "Cell Inputs.", 13 S7 (io) "Balance Inputs/Outputs. 12 N-MOSFETs are connected between S(n) and C(n - 1) for discharging cells.", 14 C6 (in) "Cell Inputs.", 15 S6 (io) "Balance Inputs/Outputs. 12 N-MOSFETs are connected between S(n) and C(n - 1) for discharging cells.", 16 C5 (in) "Cell Inputs.", 17 S5 (io) "Balance Inputs/Outputs. 12 N-MOSFETs are connected between S(n) and C(n - 1) for discharging cells.", 18 C4 (in) "Cell Inputs.", 19 S4 (io) "Balance Inputs/Outputs. 12 N-MOSFETs are connected between S(n) and C(n - 1) for discharging cells.", 20 C3 (in) "Cell Inputs.", 21 S3 (io) "Balance Inputs/Outputs. 12 N-MOSFETs are connected between S(n) and C(n - 1) for discharging cells.", 22 C2 (in) "Cell Inputs.", 23 S2 (io) "Balance Inputs/Outputs. 12 N-MOSFETs are connected between S(n) and C(n - 1) for discharging cells.", 24 C1 (in) "Cell Inputs.", 25 S1 (io) "Balance Inputs/Outputs. 12 N-MOSFETs are connected between S(n) and C(n - 1) for discharging cells.", 26 C0 (in) "Cell Inputs.", 27 GPIO1 (io) "General Purpose I/O. Can be used as digital inputs or digital outputs, or as analog inputs with a measurement range from V- to 5V.", 28 GPIO2 (io) "General Purpose I/O. Can be used as digital inputs or digital outputs, or as analog inputs with a measurement range from V- to 5V.", 29 GPIO3 (io) "General Purpose I/O. Can be used as digital inputs or digital outputs, or as analog inputs with a measurement range from V- to 5V. GPIO [3:5] can be used as an I2C or SPI port.", 30 V- (power) "Negative Supply Pins. The V- pins must be shorted together, external to the IC.", 31 V- (power) "Negative Supply Pins. The V- pins must be shorted together, external to the IC.", 32 GPIO4 (io) "General Purpose I/O. Can be used as digital inputs or digital outputs, or as analog inputs with a measurement range from V- to 5V. GPIO [3:5] can be used as an I2C or SPI port.", 33 GPIO5 (io) "General Purpose I/O. Can be used as digital inputs or digital outputs, or as analog inputs with a measurement range from V- to 5V. GPIO [3:5] can be used as an I2C or SPI port.", 34 VREF2 "Buffered 2nd reference voltage for driving multiple 10k thermistors. Bypass with an external 1uF capacitor.", 35 VREF1 "ADC Reference Voltage. Bypass with an external 1uF capacitor. No DC loads allowed.", 36 SWTEN (in) "Software Timer Enable. Connect this pin to VREG to enable the software timer.", 37 VREG (power) "5V Regulator Input. Bypass with an external 1uF capacitor.", 38 DRIVE (out) "Connect the base of an NPN to this pin. Connect the collector to V+ and the emitter to VREG.", 39 WDT (hiz) "Watchdog Timer Output Pin. This is an open drain NMOS digital output. It can be left unconnected or connected with a 1M resistor to VREG. If the LTC6804 does not receive a valid command within 2 seconds, the watchdog timer (See Datasheet)", 40 ISOMD (in) "Serial Interface Mode. Connecting ISOMD to VREG configures Pins 41 to 44 of the LTC6804 for 2-wire isolated interface (isoSPI) mode. Connecting ISOMD to V- configures the LTC6804 for 4-wire SPI mode.", 41 CSB (IMA) (io), 42 SCK (IPA) (io), 43 SDI (NC) (in), 44 SDO (NC) (oc), 45 IBIAS (in) "Isolated Interface Current Bias. Tie IBIAS to V- through a resistor divider to set the interface output current level. When the isoSPI interface is enabled, the IBIAS pin voltage is 2V. The IPA/IMA or IPB/IMB output current (See Datasheet)", 46 ICMP (in) "Isolated Interface Comparator Voltage Threshold Set. Tie this pin to the resistor divider between IBIAS and V- to set the voltage threshold of the isoSPI receiver comparators. The comparator thresholds are set to 1/2 the (See Datasheet)", 47 IMB (io) "Isolated 2-Wire Serial Interface Port B. IMB (minus) are a differential input/output pair.", 48 IPB (io) "Isolated 2-Wire Serial Interface Port B. IPB (plus) are a differential input/output pair."